# Altium schematic symbol library Led_edited.SchLib: 2 symbols
Pins are listed as number, name and electrical type; pins without a type are passive.

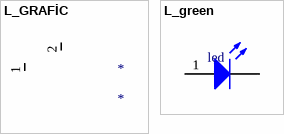
[diagram p0: symbols L_GRAFİC to L_green]

## L_GRAFİC
designator *
pins: 1, 2

## L_green
designator led  (value not drawn)
footprint Led_green
pins: 1 V, 2 K